# Altium footprint library SIM900.PcbLib: 10 footprints
Each footprint in its own frame and in the unit in brackets; x right, y up, seen from the top. Pads: shape width x height; smd on the part's side, far side on the other; paste and mask are expansions set on the pad; w line width, h text height; cw(c..) or ccw(c..) is an arc to the next point about the centre after c.
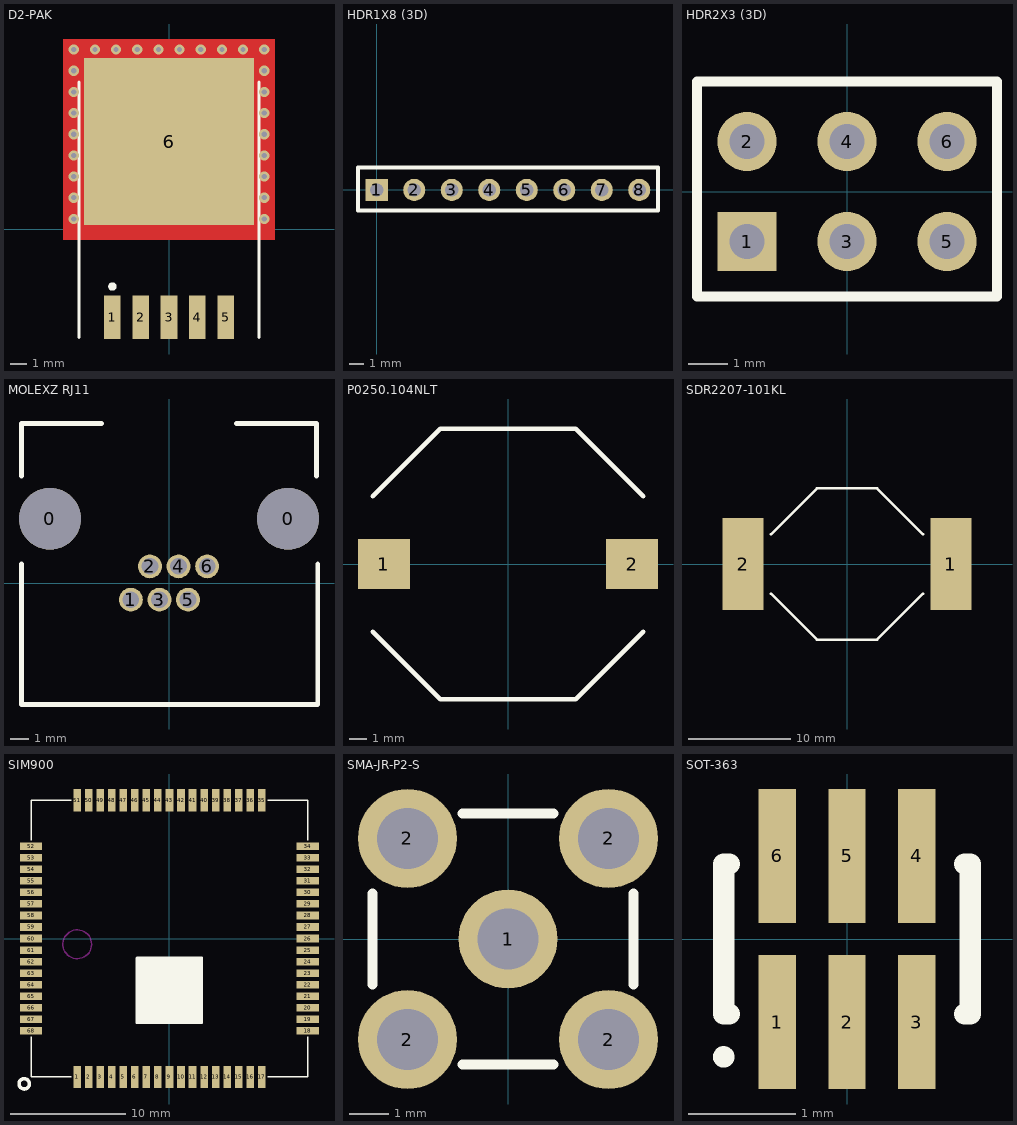
[diagram p0: the footprints below, top view; thin cyan lines are the x and y axes]

## D2-PAK [mm] "D2-PAK; 5 Leads; Body 14.7 (inc. leads) x 10.2 mm (LxW max)"
height 4.58
pads (6):
  rect 1x2.6 smd: 1(-3.4,-5.275) 2(-1.7,-5.275) 3(0,-5.275) 4(1.7,-5.275) 5(3.4,-5.275)
  rect 10.2x10 smd: 6(0,5.275)
via 5.715,0.635 diameter 0.61 hole 0.305
via 5.715,1.905 diameter 0.61 hole 0.305
via 5.715,3.175 diameter 0.61 hole 0.305
via 5.715,4.445 diameter 0.61 hole 0.305
via 5.715,5.715 diameter 0.61 hole 0.305
via 5.715,6.985 diameter 0.61 hole 0.305
via 5.715,8.255 diameter 0.61 hole 0.305
via 5.715,9.525 diameter 0.61 hole 0.305
via 5.715,10.795 diameter 0.61 hole 0.305
via 4.445,10.795 diameter 0.61 hole 0.305
via 3.175,10.795 diameter 0.61 hole 0.305
via 1.905,10.795 diameter 0.61 hole 0.305
via 0.635,10.795 diameter 0.61 hole 0.305
via -0.635,10.795 diameter 0.61 hole 0.305
via -1.905,10.795 diameter 0.61 hole 0.305
via -3.175,10.795 diameter 0.61 hole 0.305
via -4.445,10.795 diameter 0.61 hole 0.305
via -5.715,10.795 diameter 0.61 hole 0.305
via -5.715,9.525 diameter 0.61 hole 0.305
via -5.715,8.255 diameter 0.61 hole 0.305
via -5.715,6.985 diameter 0.61 hole 0.305
via -5.715,5.715 diameter 0.61 hole 0.305
via -5.715,4.445 diameter 0.61 hole 0.305
via -5.715,3.175 diameter 0.61 hole 0.305
via -5.715,1.905 diameter 0.61 hole 0.305
via -5.715,0.635 diameter 0.61 hole 0.305
Top Layer:
  rectangle: -6.35,-0.635 6.35,11.43
Top Overlay:
  circle w0.25: c-3.4,-3.425 r0.125
  lines w0.2: -5.4,-6.475 -5.4,8.825 ; 5.4,-6.475 5.4,8.825
3D body: height 4.81, standoff 0.01, extent -5,-5.99 5,9.68

## HDR1X8 (3D) [mm] "Connector; Header; 8 Position"
height 1
pads (8):
  rect 1.5x1.5 hole 0.9: 1(0,0)
  round 1.5 hole 0.9: 2(2.54,0) 3(5.08,0) 4(7.62,0) 5(10.16,0) 6(12.7,0) 7(15.24,0) 8(17.78,0)
Top Overlay:
  lines w0.254: 19.05,-1.27 19.05,1.524 -1.27,1.524 -1.27,-1.397 19.05,-1.397 19.05,-1.016
3D body: height 8.53, standoff -3.66, extent 11.43,-1.397 19.05,1.523
3D body: height 8.53, standoff -3.66, extent 6.35,-1.397 13.97,1.523
3D body: height 8.53, standoff -3.66, extent -1.27,-1.397 6.35,1.523

## HDR2X3 (3D) [mm]
pads (6):
  rect 1.5x1.5 hole 0.9: 1(-2.54,-1.27)
  round 1.5 hole 0.9: 2(-2.54,1.27) 3(0,-1.27) 4(0,1.27) 5(2.54,-1.27) 6(2.54,1.27)
Top Overlay:
  lines w0.254: -3.81,-2.667 3.81,-2.667 3.81,2.794 -3.81,2.794 -3.81,-2.667
3D body: height 8.53, standoff -3.66, extent -3.81,-2.667 3.81,0.253
3D body: height 8.53, standoff -3.66, extent -3.81,-0.127 3.81,2.793

## MOLEXZ RJ11 [mil] "438600020 (MOLEX RJ11)"
pads (8):
  round 130 hole 130 unplated: 0(-250,135) 0(250,135)
  round 50 hole 35: 1(-80,-35) 2(-40,35) 3(-20,-35) 4(20,35) 5(40,-35) 6(80,35)
Top Overlay:
  lines w10: -310,40 -310,-255 312.5,-255 312.5,40 ; -310,225 -310,335 -141.5,335 ; 141.5,335 310,335 310,225
3D body: height 506.6, standoff -137.4, extent -310,-255 312.5,335

## P0250.104NLT [mil]
pads (2):
  rect 115x110 smd: 1(-275,0) 2(275,0)
Top Overlay:
  lines w10: -300,-150 -150,-300 0,-300 150,-300 300,-150 ; -300,150 -150,300 0,300 150,300 300,150
3D body: height 5, standoff -105.98, extent -244.99,-185.03 244.95,185.05

## SDR2207-101KL [mm]
pads (2):
  rect 4x9 smd: 1(10.16,0) 2(-10.16,0)
Top Overlay:
  lines w0.254: -7.439,-2.898 -2.937,-7.4 -2.524,-7.4 2.524,-7.4 2.937,-7.4 7.439,-2.898 ; -7.439,2.898 -2.937,7.4 -2.524,7.4 2.524,7.4 2.937,7.4 7.439,2.898
3D body: height 7.02, standoff 0.02, extent -11,-7.5 11,7.5

## SF7W006S4ER1500 [mil]
3D body: height 73.43, standoff -1.37, extent -2033.46,-434.05 -868.11,256.9
3D body: height 387.8, standoff 301.18, extent -3257.87,-1255.91 -2214.57,-511.81

## SIM900 [mil] "SIM900 GPRS MODULE"
pads (68):
  rect 26x76 smd: 1(-314.96,-472.44) 2(-275.59,-472.44) 3(-236.22,-472.44) 4(-196.85,-472.44) 5(-157.48,-472.44) 6(-118.11,-472.44) 7(-78.74,-472.44) 8(-39.36,-472.44) 9(0.01,-472.44) 10(39.38,-472.44) 11(78.75,-472.44) 12(118.12,-472.44) 13(157.49,-472.44) 14(196.86,-472.44) 15(236.23,-472.44) 16(275.6,-472.44) 17(314.97,-472.44) 35(314.97,472.44) 36(275.6,472.44) 37(236.23,472.44) 38(196.86,472.44) 39(157.49,472.44) 40(118.12,472.44) 41(78.75,472.44) 42(39.38,472.44) 43(0.01,472.44) 44(-39.36,472.44) 45(-78.74,472.44) 46(-118.11,472.44) 47(-157.48,472.44) 48(-196.85,472.44) 49(-236.22,472.44) 50(-275.59,472.44) 51(-314.96,472.44)
  rect 76x26 smd: 18(472.45,-314.96) 19(472.45,-275.59) 20(472.45,-236.22) 21(472.45,-196.85) 22(472.45,-157.48) 23(472.45,-118.11) 24(472.45,-78.74) 25(472.45,-39.37) 26(472.45,0) 27(472.45,39.37) 28(472.45,78.74) 29(472.45,118.11) 30(472.45,157.48) 31(472.45,196.85) 32(472.45,236.22) 33(472.45,275.59) 34(472.45,314.96) 52(-472.44,314.96) 53(-472.44,275.59) 54(-472.44,236.22) 55(-472.44,196.85) 56(-472.44,157.48) 57(-472.44,118.11) 58(-472.44,78.74) 59(-472.44,39.37) 60(-472.44,0) 61(-472.44,-39.37) 62(-472.44,-78.74) 63(-472.44,-118.11) 64(-472.44,-157.48) 65(-472.44,-196.85) 66(-472.44,-236.22) 67(-472.44,-275.59) 68(-472.44,-314.96)
Top Overlay:
  circle w12: c-496.06,-496.07 r17.61
  rectangle: -110.23,-287.4 110.24,-66.93
  lines w5: -472.44,-334.65 -472.44,-472.44 -334.64,-472.44 ; -472.44,334.64 -472.44,472.44 -334.64,472.44 ; 334.65,-472.44 472.45,-472.44 472.45,-334.65 ; 334.65,472.44 472.45,472.44 472.45,334.64
  lines w10: -110.23,-287.4 110.24,-287.4 110.24,-66.93 -110.23,-66.93 -110.23,-287.4
Keep-Out Layer:
  circle w5: c-314.96,-19.69 r49.33
3D body: height 118.9, standoff 0, extent -472.44,-472.44 472.45,472.44

## SMA-JR-P2-S [mm]
pads (5):
  round 2.5 hole 1.55: 1(0,0) 2(-2.54,-2.54) 2(-2.54,2.54) 2(2.54,-2.54) 2(2.54,2.54)
Top Overlay:
  lines w0.254: -3.429,-1.143 -3.429,1.143 ; -1.143,-3.175 1.143,-3.175 ; -1.143,3.175 1.143,3.175 ; 3.175,-1.143 3.175,1.143
3D body: height 9.59, standoff -3.28, extent -3.327,-3.175 12.073,3.175

## SOT-363 [mm] "SOT-363/SC-88; 6 Leads; Body 2.2 x 2.2 mm, inc. leads (LxW max)"
height 1
pads (6):
  rect 0.35x1.25 smd: 1(-0.65,-0.775) 2(0,-0.775) 3(0.65,-0.775) 4(0.65,0.775) 5(0,0.775) 6(-0.65,0.775)
Top Overlay:
  circle w0.1: c-1.15,-1.1 r0.05
  lines w0.2: -1.1,-0.7 -1.15,-0.7 -1.15,0.7 -1.1,0.7 ; 1.1,-0.7 1.15,-0.7 1.15,0.7 1.1,0.7
3D body: height 1, standoff 0, extent -1.05,-1.15 1.05,1.15